# Altium schematic symbol library K64F_Board_MIRROR.SchLib: 1 symbol
Pins are listed as number, name and electrical type; pins without a type are passive.

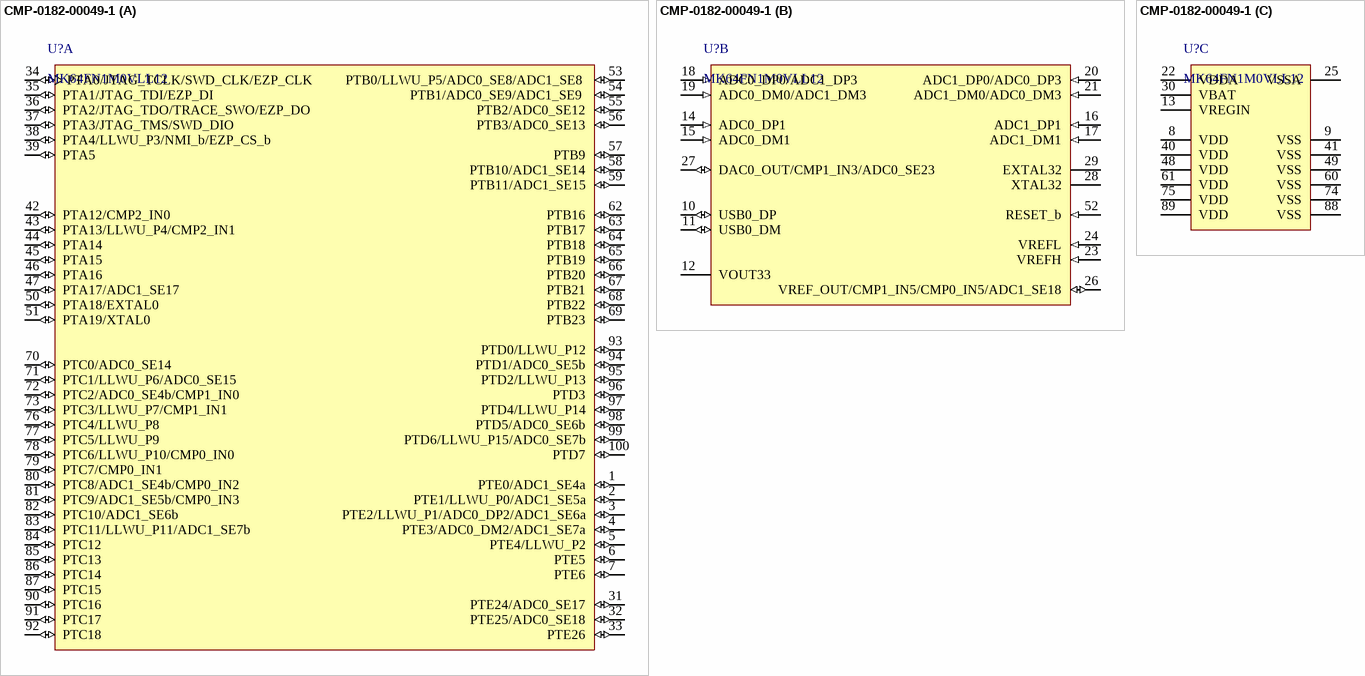
[diagram p0: symbol CMP-0182-00049-1]

## CMP-0182-00049-1
designator U?, comment MK64FN1M0VLL12
Cortex-M4-based Microcontroller with FPU, 1 MB, 120 MHz, 1.71 to 3.6 V, -40 to 105 degC, 100-Pin QFP (983-02), RoHS, Tray; Manufacturer: Freescale Semiconductor; SRAM: 256 KB; Flash: 1 MB; VBAT: 1.71 to 3.6 V; DatasheetVersion: Rev. 3; ComponentLink1URL: http://www.freescale.com/; VDD: 1.71 to 3.6 V; VDDA: 1.71 to 3.6 V; ComponentLink1Description: Manufacturer URL; Packing: Tray; ComponentLink2Description: Datasheet; Temperature Range: -40 to 105 degC; PackageVersion: Rev. J; PackageDescription: 100-Pin Plastic Quad Flat Package, Body 14 x 14 mm, Pitch 0.5 mm; PartNumber: MK64FN1M0VLL12; ComponentLink3URL: http://cache.freescale.com/files/shared/doc/package_info/98ASS23308W.pdf; ComponentLink2URL: http://cache.freescale.com/files/microcontrollers/doc/data_sheet/K64P144M120SF5.pdf?pspll=1; ComponentLink3Description: Package Specification; RoHS: TRUE; Mounting Technology: Surface Mount
footprint 983-02_M (Shrink QFP, 100-Leads, Body 14x14mm, Pitch 0.5mm, IPC Low Density)
footprint 983-02_N (Shrink QFP, 100-Leads, Body 14x14mm, Pitch 0.5mm, IPC Medium Density)
footprint 983-02_L (Shrink QFP, 100-Leads, Body 14x14mm, Pitch 0.5mm, IPC High Density)
footprint K64F_DevBoard_Headers (Shrink QFP, 100-Leads, Body 14x14mm, Pitch 0.5mm, IPC High Density)
footprint K64F_DevBoard_Headers_MIRROR (Shrink QFP, 100-Leads, Body 14x14mm, Pitch 0.5mm, IPC High Density)
part A pins: 1 PTE0/ADC1_SE4a (io), 2 PTE1/LLWU_P0/ADC1_SE5a (io), 3 PTE2/LLWU_P1/ADC0_DP2/ADC1_SE6a (io), 4 PTE3/ADC0_DM2/ADC1_SE7a (io), 5 PTE4/LLWU_P2 (io), 6 PTE5 (io), 7 PTE6 (io), 31 PTE24/ADC0_SE17 (io), 32 PTE25/ADC0_SE18 (io), 33 PTE26 (io), 34 PTA0/JTAG_TCLK/SWD_CLK/EZP_CLK (io), 35 PTA1/JTAG_TDI/EZP_DI (io), 36 PTA2/JTAG_TDO/TRACE_SWO/EZP_DO  (io), 37 PTA3/JTAG_TMS/SWD_DIO (io), 38 PTA4/LLWU_P3/NMI_b/EZP_CS_b (io), 39 PTA5 (io), 42 PTA12/CMP2_IN0 (io), 43 PTA13/LLWU_P4/CMP2_IN1 (io), 44 PTA14 (io), 45 PTA15 (io), 46 PTA16 (io), 47 PTA17/ADC1_SE17  (io), 50 PTA18/EXTAL0  (io), 51 PTA19/XTAL0 (io), 53 PTB0/LLWU_P5/ADC0_SE8/ADC1_SE8  (io), 54 PTB1/ADC0_SE9/ADC1_SE9  (io), 55 PTB2/ADC0_SE12 (io), 56 PTB3/ADC0_SE13 (io), 57 PTB9 (io), 58 PTB10/ADC1_SE14 (io), 59 PTB11/ADC1_SE15 (io), 62 PTB16 (io), 63 PTB17 (io), 64 PTB18 (io), 65 PTB19 (io), 66 PTB20 (io), 67 PTB21 (io), 68 PTB22 (io), 69 PTB23 (io), 70 PTC0/ADC0_SE14 (io), 71 PTC1/LLWU_P6/ADC0_SE15 (io), 72 PTC2/ADC0_SE4b/CMP1_IN0 (io), 73 PTC3/LLWU_P7/CMP1_IN1 (io), 76 PTC4/LLWU_P8 (io), 77 PTC5/LLWU_P9 (io), 78 PTC6/LLWU_P10/CMP0_IN0 (io), 79 PTC7/CMP0_IN1 (io), 80 PTC8/ADC1_SE4b/CMP0_IN2  (io), 81 PTC9/ADC1_SE5b/CMP0_IN3 (io), 82 PTC10/ADC1_SE6b (io), 83 PTC11/LLWU_P11/ADC1_SE7b  (io), 84 PTC12 (io), 85 PTC13 (io), 86 PTC14 (io), 87 PTC15 (io), 90 PTC16 (io), 91 PTC17 (io), 92 PTC18 (io), 93 PTD0/LLWU_P12 (io), 94 PTD1/ADC0_SE5b (io), 95 PTD2/LLWU_P13 (io), 96 PTD3 (io), 97 PTD4/LLWU_P14 (io), 98 PTD5/ADC0_SE6b (io), 99 PTD6/LLWU_P15/ADC0_SE7b (io), 100 PTD7 (io)
part B pins: 10 USB0_DP (io), 11 USB0_DM (io), 12 VOUT33 (power), 14 ADC0_DP1 (in), 15 ADC0_DM1 (in), 16 ADC1_DP1 (in), 17 ADC1_DM1 (in), 18 ADC0_DP0/ADC1_DP3 (in), 19 ADC0_DM0/ADC1_DM3 (in), 20 ADC1_DP0/ADC0_DP3 (in), 21 ADC1_DM0/ADC0_DM3 (in), 23 VREFH (in), 24 VREFL (in), 26 VREF_OUT/CMP1_IN5/CMP0_IN5/ADC1_SE18 (io), 27 DAC0_OUT/CMP1_IN3/ADC0_SE23 (io), 28 XTAL32, 29 EXTAL32, 52 RESET_b (in)
part C pins: 8 VDD (power), 9 VSS (power), 13 VREGIN (power), 22 VDDA (power), 25 VSSA (power), 30 VBAT (power), 40 VDD (power), 41 VSS (power), 48 VDD (power), 49 VSS (power), 60 VSS (power), 61 VDD (power), 74 VSS (power), 75 VDD (power), 88 VSS (power), 89 VDD (power)